# Altium footprint library SOD-323_SC-76.PcbLib: 1 footprints
Each footprint in its own frame and in the unit in brackets; x right, y up, seen from the top. Pads: shape width x height; smd on the part's side, far side on the other; paste and mask are expansions set on the pad; w line width, h text height; cw(c..) or ccw(c..) is an arc to the next point about the centre after c.
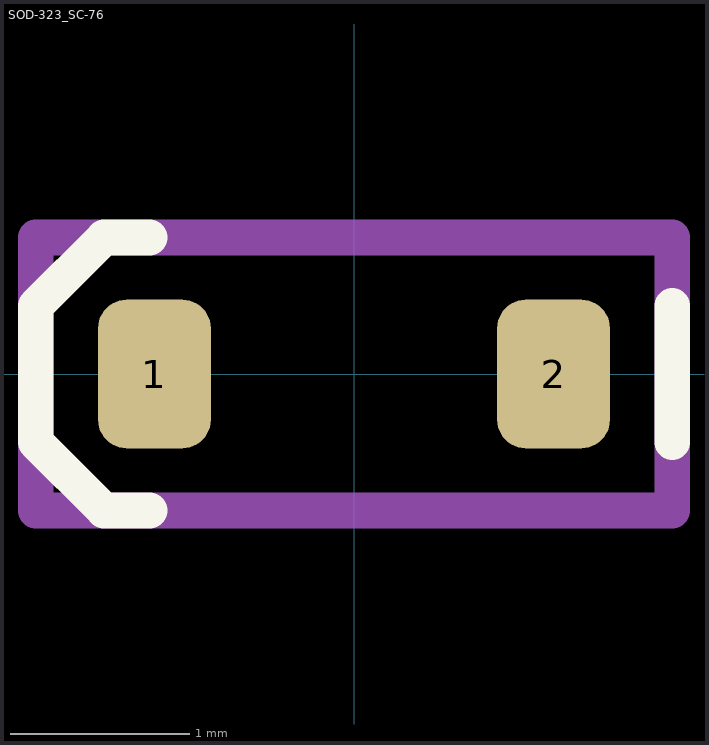
[diagram p0: the footprint, top view; thin cyan lines are the x and y axes]

## SOD-323_SC-76 [mm] "SOD-323 AKA SC-76"
pads (2):
  rrect50% 0.63x0.83 smd: 1(-1.115,0) 2(1.115,0)
Top Overlay:
  lines w0.2: -1.143,-0.762 -1.397,-0.762 -1.778,-0.381 -1.778,0.381 -1.397,0.762 -1.143,0.762 ; 1.778,-0.381 1.778,0.381
Mechanical 15:
  lines w0.2: -1.778,-0.762 -1.778,0.762 1.778,0.762 1.778,-0.762 -1.778,-0.762
3D body: height 0.98, standoff -0.01, extent -1.25,-0.625 1.25,0.625